# Altium footprint library RSCSK2243R3D02008U.PcbLib: 1 footprints
Each footprint in its own frame and in the unit in brackets; x right, y up, seen from the top. Pads: shape width x height; smd on the part's side, far side on the other; paste and mask are expansions set on the pad; w line width, h text height; cw(c..) or ccw(c..) is an arc to the next point about the centre after c.
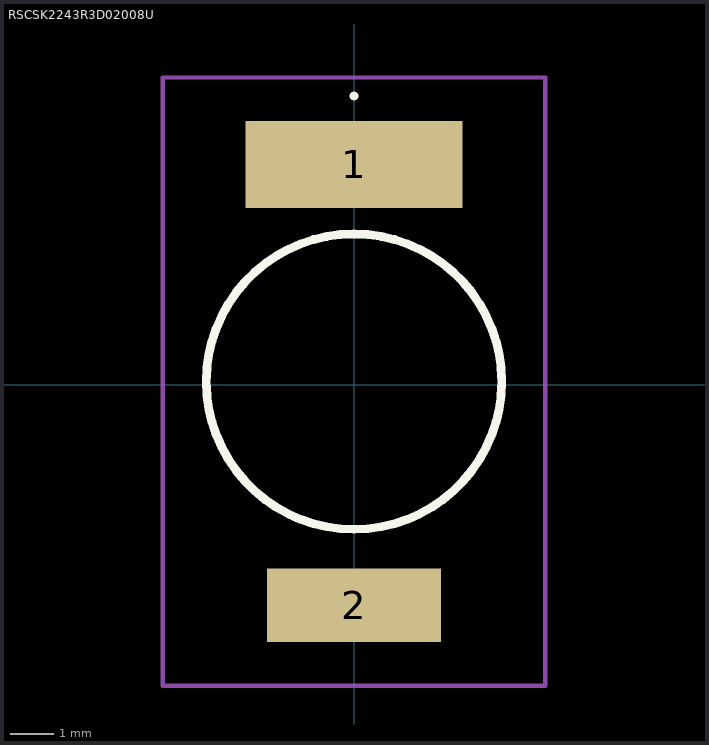
[diagram p0: the footprint, top view; thin cyan lines are the x and y axes]

## RSCSK2243R3D02008U [mm]
pads (2):
  rect 5x2 smd: 1(0,5.075)
  rect 4x1.7 smd: 2(0,-5.075)
Top Overlay:
  lines w0.1: 0,6.6 ccw(c0,6.65) 0,6.7 ccw(c0,6.65) 0,6.6
  lines w0.2: -3.4,0.075 cw(c0,0.075) 3.4,0.075 cw(c0,0.075) -3.4,0.075
Mechanical 15:
  lines w0.1: -3.4,0.075 cw(c0,0.075) 3.4,0.075 cw(c0,0.075) -3.4,0.075
Mechanical 20:
  lines w0.1: -4.4,-6.925 -4.4,7.075 4.4,7.075 4.4,-6.925 -4.4,-6.925
3D body "RSCSK2243R3D02008U.stp": height 3.01, standoff 0.01, extent -3.261,-5.519 3.515,5.781